# EAGLE library part IS31FL3733-TQLS4 (library IS31FL3733-TQLS4)
IC LED DRVR LINEAR ETQFP-48 DOT Source: Datasheet <http://www.issi.com/WW/pdf/IS31FL3733.pdf>
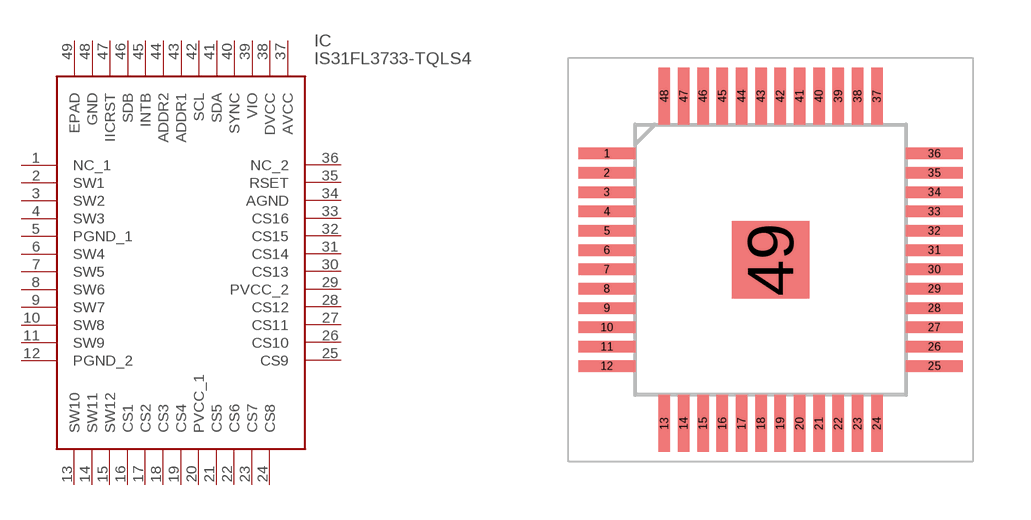
[diagram p0: symbol with the pads of QFP50P900X900X120-49N; footprint QFP50P900X900X120-49N]

Designator prefix IC

## IS31FL3733-TQLS4 (Description: IC LED DRVR LINEAR ETQFP-48 DOT; Height: 1.2mm; Manufacturer_Name: ISSI, Integrated Silicon Solution Inc; Manufacturer_Part_Number: IS31FL3733-TQLS4)  [QFP50P900X900X120-49N]
1  NC_1
2  SW1
3  SW2
4  SW3
5  PGND_1
6  SW4
7  SW5
8  SW6
9  SW7
10  SW8
11  SW9
12  PGND_2
13  SW10
14  SW11
15  SW12
16  CS1
17  CS2
18  CS3
19  CS4
20  PVCC_1
21  CS5
22  CS6
23  CS7
24  CS8
25  CS9
26  CS10
27  CS11
28  CS12
29  PVCC_2
30  CS13
31  CS14
32  CS15
33  CS16
34  AGND
35  RSET
36  NC_2
37  AVCC
38  DVCC
39  VIO
40  SYNC
41  SDA
42  SCL
43  ADDR1
44  ADDR2
45  INTB
46  SDB
47  IICRST
48  GND
49  EPAD

## Footprint QFP50P900X900X120-49N (pad centres in mm)
LQFP48
smd 1.475 x 0.3: 1 -4.238,2.75; 2 -4.238,2.25; 3 -4.238,1.75; 4 -4.238,1.25; 5 -4.238,0.75; 6 -4.238,0.25; 7 -4.238,-0.25; 8 -4.238,-0.75; 9 -4.238,-1.25; 10 -4.238,-1.75; 11 -4.238,-2.25; 12 -4.238,-2.75; 25 4.238,-2.75; 26 4.238,-2.25; 27 4.238,-1.75; 28 4.238,-1.25; 29 4.238,-0.75; 30 4.238,-0.25; 31 4.238,0.25; 32 4.238,0.75; 33 4.238,1.25; 34 4.238,1.75; 35 4.238,2.25; 36 4.238,2.75
smd 0.3 x 1.475: 13 -2.75,-4.238; 14 -2.25,-4.238; 15 -1.75,-4.238; 16 -1.25,-4.238; 17 -0.75,-4.238; 18 -0.25,-4.238; 19 0.25,-4.238; 20 0.75,-4.238; 21 1.25,-4.238; 22 1.75,-4.238; 23 2.25,-4.238; 24 2.75,-4.238; 37 2.75,4.238; 38 2.25,4.238; 39 1.75,4.238; 40 1.25,4.238; 41 0.75,4.238; 42 0.25,4.238; 43 -0.25,4.238; 44 -0.75,4.238; 45 -1.25,4.238; 46 -1.75,4.238; 47 -2.25,4.238; 48 -2.75,4.238
smd 2 x 2: 49 0,0